# Altium schematic symbol library 5559IN67T OSM.Schlib: 1 symbol
Pins are listed as number, name and electrical type; pins without a type are passive.

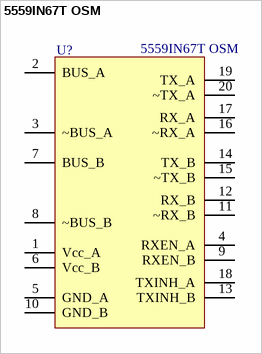
[diagram p0: symbol 5559IN67T OSM]

## 5559IN67T OSM
designator U?
Назначение: Приемопередатчик манчестерского кода; Наименование: ОСМ 5559ИН67Т
footprint 20PIN FLATPACK
pins: 1 Vcc_A, 2 BUS_A, 3 ~BUS_A, 4 RXEN_A, 5 GND_A, 6 Vcc_B, 7 BUS_B, 8 ~BUS_B, 9 RXEN_B, 10 GND_B, 11 ~RX_B, 12 RX_B, 13 TXINH_B, 14 TX_B, 15 ~TX_B, 16 ~RX_A, 17 RX_A, 18 TXINH_A, 19 TX_A, 20 ~TX_A